# EAGLE library part USB2UART (library pic32)
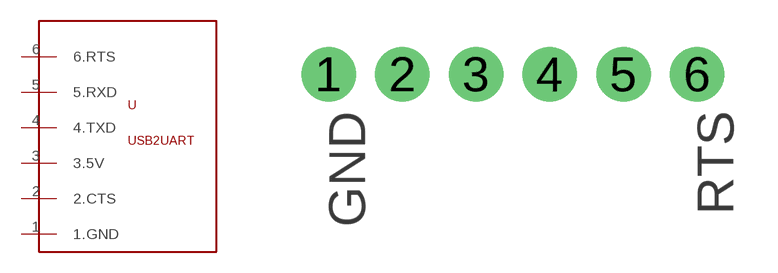
[diagram p0: symbol with the pads of USB2UART; footprint USB2UART]

Designator prefix -

## USB2UART  [USB2UART]
1  1.GND
2  2.CTS
3  3.5V
4  4.TXD
5  5.RXD
6  6.RTS

## Footprint USB2UART (pad centres in mm)
drill 1.016 pad 1.88: 1 -6.35,0; 2 -3.81,0; 3 -1.27,0; 4 1.27,0; 5 3.81,0; 6 6.35,0